# Altium schematic symbol library SCH - MEMORY - MICRON TECHNOLOGY MT40A1G16.SchLib: 1 symbol
Pins are listed as number, name and electrical type; pins without a type are passive.

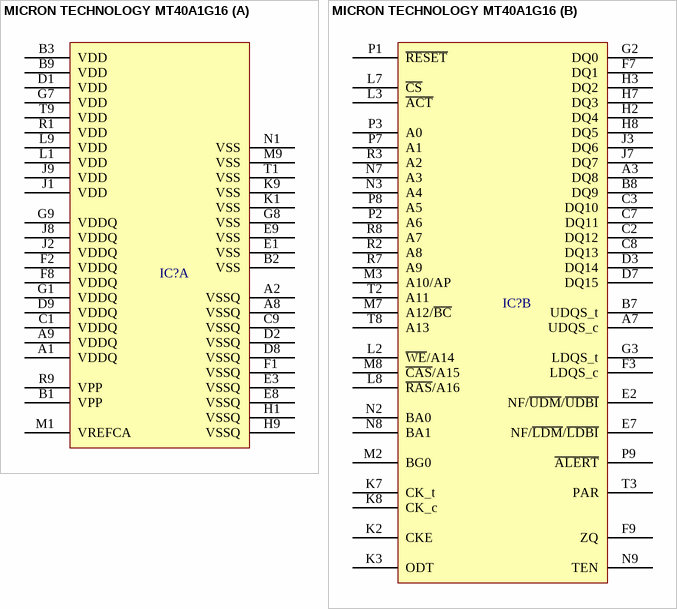
[diagram p0: symbol MICRON TECHNOLOGY MT40A1G16]

## MICRON TECHNOLOGY MT40A1G16
designator IC?  (value not drawn)
part A pins: A1 VDDQ, A2 VSSQ, A8 VSSQ, A9 VDDQ, B1 VPP, B2 VSS, B3 VDD, B9 VDD, C1 VDDQ, C9 VSSQ, D1 VDD, D2 VSSQ, D8 VSSQ, D9 VDDQ, E1 VSS, E3 VSSQ, E8 VSSQ, E9 VSS, F1 VSSQ, F2 VDDQ, F8 VDDQ, G1 VDDQ, G7 VDD, G8 VSS, G9 VDDQ, H1 VSSQ, H9 VSSQ, J1 VDD, J2 VDDQ, J8 VDDQ, J9 VDD, K1 VSS, K9 VSS, L1 VDD, L9 VDD, M1 VREFCA, M9 VSS, N1 VSS, R1 VDD, R9 VPP, T1 VSS, T9 VDD
part B pins: A3 DQ8, A7 UDQS_c, B7 UDQS_t, B8 DQ9, C2 DQ12, C3 DQ10, C7 DQ11, C8 DQ13, D3 DQ14, D7 DQ15, E2 NF/~{UDM}/~{UDBI}, E7 NF/~{LDM}/~{LDBI}, F3 LDQS_c, F7 DQ1, F9 ZQ, G2 DQ0, G3 LDQS_t, H2 DQ4, H3 DQ2, H7 DQ3, H8 DQ5, J3 DQ6, J7 DQ7, K2 CKE, K3 ODT, K7 CK_t, K8 CK_c, L2 ~{WE}/A14, L3 ~{ACT}, L7 ~{CS}, L8 ~{RAS}/A16, M2 BG0, M3 A10/AP, M7 A12/~{BC}, M8 ~{CAS}/A15, N2 BA0, N3 A4, N7 A3, N8 BA1, N9 TEN, P1 ~{RESET}, P2 A6, P3 A0, P7 A1, P8 A5, P9 ~{ALERT}, R2 A8, R3 A2, R7 A9, R8 A7, T2 A11, T3 PAR, T8 A13